# Altium schematic symbol library Components - 07.10.24 - 13.36.SchLib: 1 symbol
Pins are listed as number, name and electrical type; pins without a type are passive.

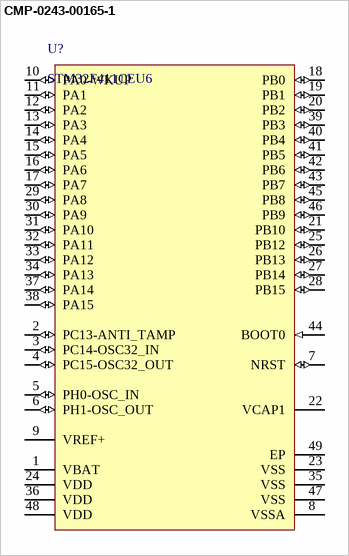
[diagram p0: symbol CMP-0243-00165-1]

## CMP-0243-00165-1
designator U?, comment STM32F411CEU6
ARM Cortex-M4 32-bit MCU+FPU, 512 KB Flash, 128 KB RAM, 36 I/Os, 48-Pin UFQFPN, -40 to 85 degC, Tray; Operating Frequency(F) (Processor speed) (MHz): 100; FLASH Size (Prog) (kB): 512; Internal RAM Size (kB): 128; I/Os (High Current): 36; Supply Voltage(Vcc) min (V): 1.7; Package Reference: 48-Pin Ultra Thin Fine Pitch Quad Flat No-Lead, 7 x 7 x 0.6 mm Body, 0.5 mm Pitch, Exposed Pad; ComponentLink1Description: Manufacturer URL; ComponentLink1URL: http://www.st.com/; Packing: Tray; Package Description: UFQFPN48; Core: ARM Cortex-M4; ComponentLink2Description: Datasheet; ComponentLink2URL: http://www.st.com/st-web-ui/static/active/en/resource/technical/document/datasheet/DM00115249.pdf; DatasheetVersion: Rev. 6; Mounting Technology: Surface Mount
footprint STM-UFQFPN48_L (QFN, 48-Leads, Body 7.1x7.1mm, Pitch 0.5mm, Thermal Pad 5.6x5.6mm, IPC High Density)
footprint STM-UFQFPN48_N (QFN, 48-Leads, Body 7.1x7.1mm, Pitch 0.5mm, Thermal Pad 5.6x5.6mm, IPC Medium Density)
footprint STM-UFQFPN48_M (QFN, 48-Leads, Body 7.1x7.1mm, Pitch 0.5mm, Thermal Pad 5.6x5.6mm, IPC Low Density)
pins: 1 VBAT (power), 2 PC13-ANTI_TAMP (io) "PC13-ANTI_TAMP/RTC_AMP1,RTC_OUT,RTC_TS", 3 PC14-OSC32_IN (io) "PC14-OSC32_IN/OSC32_IN", 4 PC15-OSC32_OUT (io) "PC15-OSC32_OUT/OSC32_OUT", 5 PH0-OSC_IN (io) "PH0-OSC_IN/OSC_IN", 6 PH1-OSC_OUT (io) "PH1-OSC_OUT/OSC_OUT", 7 NRST (io) "NRST/EVENTOUT", 8 VSSA (power), 9 VREF+ (power), 10 PA0-WKUP (io) "PA0-WKUP/TIM2_CH1/TIM2_ET,TIM5_CH1,USART2_CTS,EVENTOUT/ADC1_0,WKUP1", 11 PA1 (io) "PA1/TIM2_CH2,TIM5_CH2,SPI4_MOSI/I2S4_SD,USART2_RTS,EVENTOUT/ADC1_1", 12 PA2 (io) "PA2/TIM2_CH3,TIM5_CH3,TIM9_CH1,I2S2_CKIN,USART2_TX,EVENTOUT/ADC1_2", 13 PA3 (io) "PA3/TIM2_CH4,TIM5_CH4,TIM9_CH2,I2S2_MCK,USART2_RX,EVENTOUT/ADC1_3", 14 PA4 (io) "PA4/SPI1_NSS/I2S1_WS,SPI3_NSS/I2S3_WS,USART2_CK,EVENTOUT/ADC1_4", 15 PA5 (io) "PA5/TIM2_CH1/TIM2_ET,SPI1_SCK/I2S1_CK,EVENTOUT/ADC1_5", 16 PA6 (io) "PA6/TIM1_BKIN,TIM3_CH1,SPI1_MISO,I2S2_MCK,SDIO_CMD,EVENTOUT/ADC1_6", 17 PA7 (io) "PA7/TIM1_CH1N,TIM3_CH2,SPI1_MOSI/I2S1_SD,EVENTOUT/ADC1_7", 18 PB0 (io) "PB0/TIM1_CH2N,TIM3_CH3,SPI5_SCK/I2S5_CK,EVENTOUT/ADC1_8", 19 PB1 (io) "PB1/TIM1_CH3N,TIM3_CH4,SPI5_NSS/I2S5_WS,EVENTOUT/ADC1_9", 20 PB2 (io) "PB2/EVENTOUT/BOOT1", 21 PB10 (io) "PB10/TIM2_CH3,I2C2_SCL,SPI2_SCK/I2S2_CK,I2S3_MCK,SDIO_D7,EVENTOUT", 22 VCAP1, 23 VSS (power), 24 VDD (power), 25 PB12 (io) "PB12/TIM1_BKIN,I2C2_SMBA,SPI2_NSS/I2S2_WS,SPI4_NSS/I2S4_WS,SPI3_SCK/I2S3_CK,EVENTOUT", 26 PB13 (io) "PB13/TIM1_CH1N,SPI2_SCK/I2S2_CK,SPI4_SCK/I2S4_CK,EVENTOUT", 27 PB14 (io) "PB14/TIM1_CH2N,SPI2_MISO,I2S2EXT_SD,SDIO_D6,EVENTOUT", 28 PB15 (io) "PB15/RTC_50HZ,TIM1_CH3N,SPI2_MOSI/I2S2_SD,SDIO_CK,EVENTOUT/RTC_REFIN", 29 PA8 (io) "PA8/MCO_1,TIM1_CH1,I2C3_SCL,USART1_CK,USB_FS_SOF,SDIO_D1,EVENTOUT", 30 PA9 (io) "PA9/TIM1_CH2,I2C3_SMBA,USART1_TX,USB_FS_VBUS,SDIO_D2,EVENTOUT/OTG_FS_VBUS", 31 PA10 (io) "PA10/TIM1_CH3,SPI5_MOSI/I2S5_SD,USART1_RX,USB_FS_ID,EVENTOUT", 32 PA11 (io) "PA11/TIM1_CH4,SPI4_MISO,USART1_CTS,USART6_TX,USB_FS_DM,EVENTOUT", 33 PA12 (io) "PA12/TIM1_ETR,SPI5_MISO,USART1_RTS,USART6_RX,USB_FS_DP,EVENTOUT", 34 PA13 (io) "PA13/JTMS-SWDIO,EVENTOUT", 35 VSS (power), 36 VDD (power), 37 PA14 (io) "PA14/JTCK-SWCLK,EVENTOUT", 38 PA15 (io) "PA15/JTDI,TIM2_CH1/TIM2_ETR,SPI1_NSS/I2S1_WS,SPI3_NSS/I2S3_WS,USART1_TX,EVENTOUT", 39 PB3 (io) "PB3/JTDO-SWO,TIM2_CH2,SPI1_SCK/I2S1_CK,SPI3_SCK/I2S3_CK,USART1_RX,I2C2_SDA,EVENTOUT", 40 PB4 (io) "PB4/JTRST,TIM3_CH1,SPI1_MISO,SPI3_MISO,I2S3EXT_SD,I2C3_SDA,SDIO_D0,EVENTOUT", 41 PB5 (io) "PB5/TIM3_CH2,I2C1_SMBA,SPI1_MOSI/I2S1_SD,SPI3_MOSI/I2S3_SD,SDIO_D3,EVENTOUT", 42 PB6 (io) "PB6/TIM4_CH1,I2C1_SCL,USART1_TX,EVENTOUT", 43 PB7 (io) "PB7/TIM4_CH2,I2C1_SDA,USART1_RX,SDIO_D0,EVENTOUT", 44 BOOT0 (in) "BOOT0/VPP", 45 PB8 (io) "PB8/TIM4_CH3,TIM10_CH1,I2C1_SCL,SPI5_MOSI/I2S5_SD,I2C3_SDA,SDIO_D4,EVENTOUT", 46 PB9 (io) "PB9/TIM4_CH4,TIM11_CH1,I2C1_SDA,SPI2_NSS/I2S2_WS,I2C2_SDA,SDIO_D5,EVENTOUT", 47 VSS (power), 48 VDD (power), 49 EP (power)